# EAGLE library part PAM8403 (library pam8403)
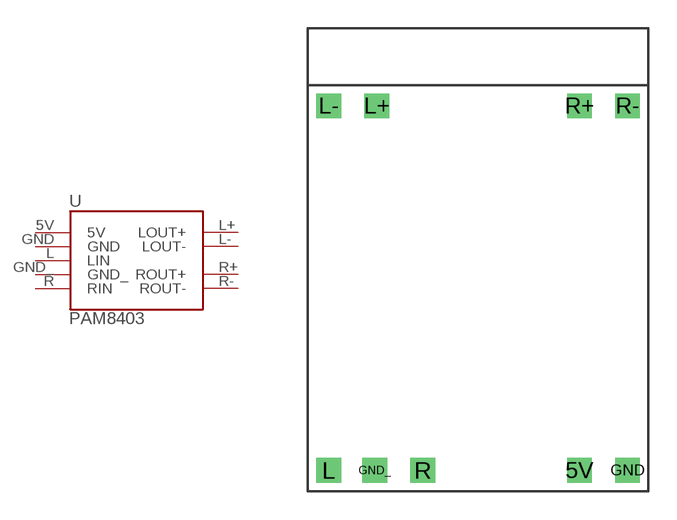
[diagram p0: symbol with the pads of PAM8403; footprint PAM8403]

Designator prefix -

## PAM8403  [PAM8403]
5V  5V
GND  GND
GND_  GND_
L  LIN
L+  LOUT+
L-  LOUT-
R  RIN
R+  ROUT+
R-  ROUT-

## Footprint PAM8403 (pad centres in mm)
drill 0.8 square: 5V 4.36,-17.4; GND 6.9,-17.4; GND_ -6.46,-17.4; L -8.9,-17.4; L+ -6.36,1.9; L- -8.9,1.9; R -3.92,-17.4; R+ 4.36,1.9; R- 6.9,1.9